# Altium footprint library SOT54V.PcbLib: 1 footprints
Each footprint in its own frame and in the unit in brackets; x right, y up, seen from the top. Pads: shape width x height; smd on the part's side, far side on the other; paste and mask are expansions set on the pad; w line width, h text height; cw(c..) or ccw(c..) is an arc to the next point about the centre after c.
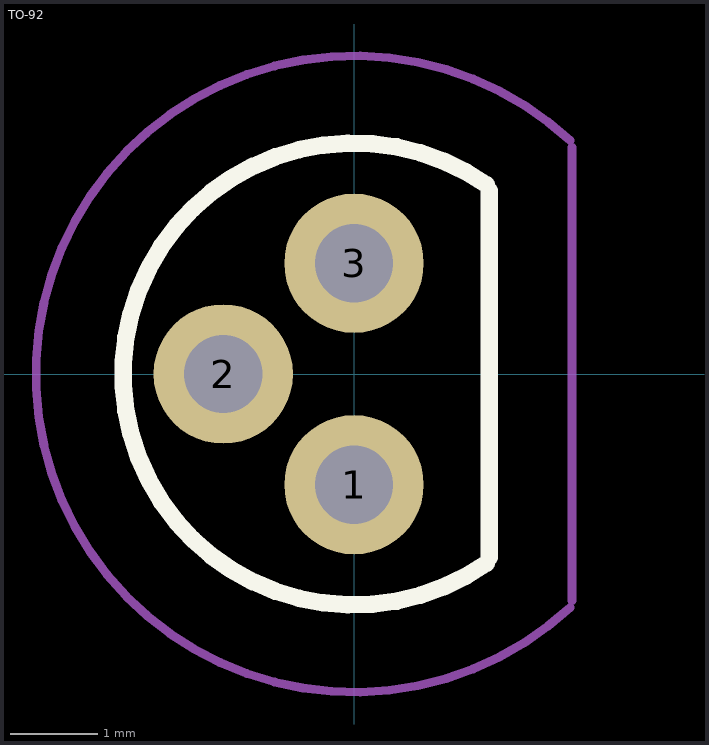
[diagram p0: the footprint, top view; thin cyan lines are the x and y axes]

## TO-92 [mm] "TO, Flat Index; 3 Axial Leads; Body Dia. 4.8mm; Leads 0.51 x 0.51 mm (max)"
height 5.33
pads (3):
  round 1.6 hole 0.9: 1(0,-1.27) 2(-1.5,0) 3(0,1.27)
Top Overlay:
  lines w0.2: 1.52,-2.171 cw(c0,0) 1.52,2.171 ; 1.55,-2.1 1.55,2.1
Assembly Top:
  lines w0.1: 1.52,-2.171 cw(c0,0) 1.52,2.171 ; 1.55,-2.1 1.55,2.1
Countryard Top:
  lines w0.1: 2.48,-2.678 cw(c0,0) 2.48,2.678 ; 2.5,-2.6 2.5,2.6
3D body: height 10, standoff -1.02, extent -2.55,-2.425 1.38,2.375